# Altium footprint library GPS1.PcbLib: 12 footprints
Each footprint in its own frame and in the unit in brackets; x right, y up, seen from the top. Pads: shape width x height; smd on the part's side, far side on the other; paste and mask are expansions set on the pad; w line width, h text height; cw(c..) or ccw(c..) is an arc to the next point about the centre after c.
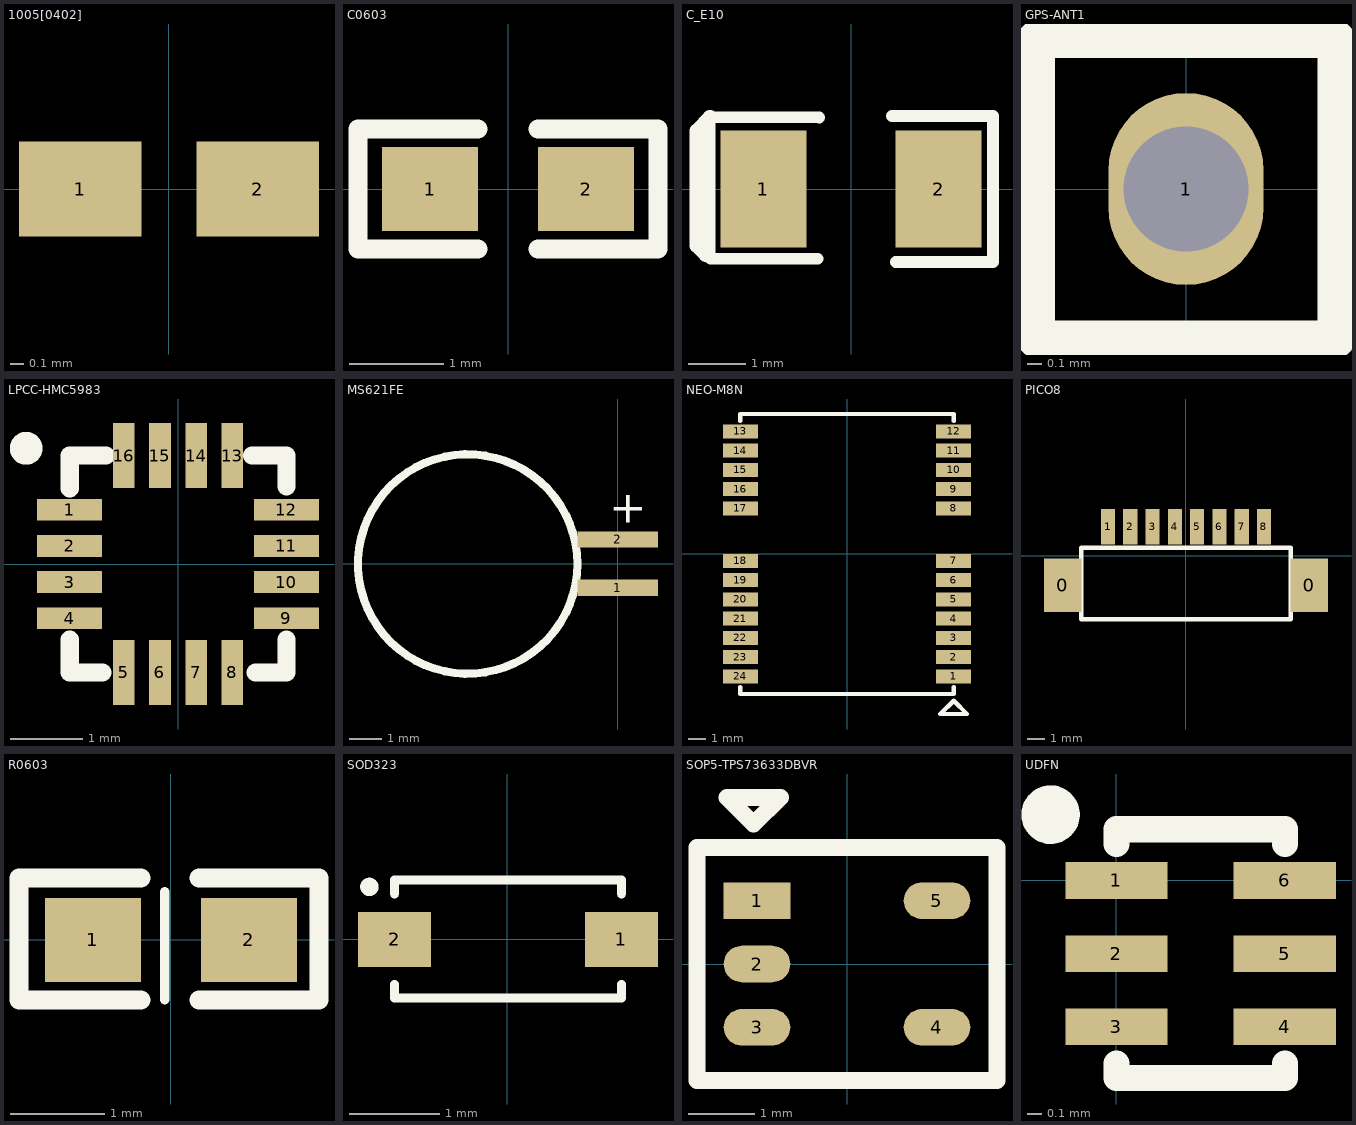
[diagram p0: the footprints below, top view; thin cyan lines are the x and y axes]

## 1005[0402] [mm] "Chip Resistor; Body 1.1 x 0.5 mm (LxW typ)"
height 2.54
pads (2):
  rect 0.9x0.7 smd: 1(-0.65,0) 2(0.65,0)

## C0603 [mil]
pads (2):
  rect 40x35 smd: 1(-32.5,0) 2(32.5,0)
Top Overlay:
  lines w8: -12.5,-25 -62.5,-25 -62.5,25 -12.5,25 ; 12.5,-25 62.5,-25 62.5,25 12.5,25

## C_E10 [mil]
pads (2):
  rect 59.05x80 smd: 1(-60,0) 2(60,0)
Top Overlay:
  lines w7.87: -96.76,-47.59 -96.76,49.1
  lines w8: -96.76,49.1 -21.88,48.94 ; -96.05,-47.59 -22.72,-47.83 ; 28.09,50 97.26,50 97.26,-50 30.57,-50
  lines w10: -99.36,-45 -105.54,-38.82 -105.54,40 -96.43,49.1 -96.76,49.1

## GPS-ANT1 [mm]
pads (1):
  oval 1.05x1.3 hole 0.85: 1(0,0)
Top Overlay:
  lines w0.254: -1.016,-1.016 -1.016,1.016 1.016,1.016 1.016,-1.016 -1.016,-1.016

## LPCC-HMC5983 [mm]
pads (16):
  rect 0.9x0.3 smd: 1(-1.5,0.75) 2(-1.5,0.25) 3(-1.5,-0.25) 4(-1.5,-0.75) 9(1.5,-0.75) 10(1.5,-0.25) 11(1.5,0.25) 12(1.5,0.75)
  rect 0.3x0.9 smd: 5(-0.75,-1.5) 6(-0.25,-1.5) 7(0.25,-1.5) 8(0.75,-1.5) 13(0.75,1.5) 14(0.25,1.5) 15(-0.25,1.5) 16(-0.75,1.5)
Top Overlay:
  circle w0.254: c-2.1,1.6 r0.1
  lines w0.254: -1.5,-1.1 -1.5,-1.5 ; -1.5,-1.05 -1.5,-1.5 ; -1.5,1.05 -1.5,1.5 ; -1.05,-1.5 -1.5,-1.5 ; -1.05,1.5 -1.5,1.5 ; -1,1.5 -1.5,1.5 ; 1.025,1.5 1.5,1.5 ; 1.05,1.5 1.5,1.5 ; 1.075,-1.5 1.5,-1.5 1.5,-1.05 ; 1.5,1.075 1.5,1.5

## MS621FE [mm]
pads (2):
  rect 2.5x0.5 smd: 1(0,-0.749) 2(0,0.749)
Top Overlay:
  circle w0.254: c-4.648,-0.013 r3.4
  text "+" at -0.254,1.27 h1.02

## NEO-M8N [mm]
pads (24):
  rect 2x0.8 smd: 1(6.1,-7) 2(6.1,-5.9) 3(6.1,-4.8) 4(6.1,-3.7) 5(6.1,-2.6) 6(6.1,-1.5) 7(6.1,-0.4) 8(6.1,2.6) 9(6.1,3.7) 10(6.1,4.8) 11(6.1,5.9) 12(6.1,7) 13(-6.1,7) 14(-6.1,5.9) 15(-6.1,4.8) 16(-6.1,3.7) 17(-6.1,2.6) 18(-6.1,-0.4) 19(-6.1,-1.5) 20(-6.1,-2.6) 21(-6.1,-3.7) 22(-6.1,-4.8) 23(-6.1,-5.9) 24(-6.1,-7)
Top Overlay:
  lines w0.254: -6.1,-7.6 -6.1,-8 6.1,-8 6.1,-7.6 ; -6.1,7.6 -6.1,8 6.1,8 6.1,7.6 ; 5.334,-9.144 6.096,-8.382 6.858,-9.144 5.334,-9.144

## PICO8 [mm]
pads (10):
  rect 2.1x3 smd: 0(-6.925,-1.65) 0(6.925,-1.65)
  rect 0.8x2 smd: 1(-4.375,1.65) 2(-3.125,1.65) 3(-1.875,1.65) 4(-0.625,1.65) 5(0.625,1.65) 6(1.875,1.65) 7(3.125,1.65) 8(4.375,1.65)
Top Overlay:
  lines w0.254: -5.875,-0.2 -5.875,0.4 ; 5.875,-0.15 5.875,0.45 ; 5.875,0.45 5.875,-3.55 -5.875,-3.55 -5.875,0.45 5.875,0.45

## R0603 [mil]
pads (2):
  rect 40x35 smd: 1(-32.5,0) 2(32.5,0)
Top Overlay:
  lines w4: -2.5,-25 -2.5,20
  lines w8: -12.5,-25 -63.25,-25 -63.25,25.79 -12.5,25.79 ; 11.75,-25 61.75,-25 61.75,25.79 11.75,25.79

## SOD323 [mil] "SOD323"
pads (2):
  rect 32x24 smd: 1(50,0) 2(-49.21,0)
Top Overlay:
  circle w4: c-60.24,23 r2
  lines w4: -49.21,-19.68 -49.21,-25.59 50,-25.59 50,-19.68 ; -49.21,20 -49.21,26 50,26 50,20

## SOP5-TPS73633DBVR [mm]
pads (5):
  rect 1x0.55 smd: 1(-1.35,0.95)
  oval 1x0.55 smd: 2(-1.35,0) 3(-1.35,-0.95) 4(1.35,-0.95) 5(1.35,0.95)
Top Overlay:
  lines w0.254: -2.25,-1.75 -2.25,1.75 2.25,1.75 2.25,-1.75 -2.25,-1.75 ; -1.8,2.5 -1.4,2.1 -1,2.5 -1.8,2.5

## UDFN [mm]
pads (6):
  rect 0.7x0.25 smd: 1(0,0) 2(0,-0.5) 3(0,-1) 4(1.15,-1) 5(1.15,-0.5) 6(1.15,0)
Top Overlay:
  circle w0.2: c-0.45,0.45 r0.1
  lines w0.178: 0,-1.25 0,-1.35 1.15,-1.35 1.15,-1.25 ; 0,0.25 0,0.35 1.15,0.35 1.15,0.25